# Altium footprint library BSPD_PcbLib.PcbLib: 22 footprints (part 2 of 2)
Each footprint in its own frame and in the unit in brackets; x right, y up, seen from the top. Pads: shape width x height; smd on the part's side, far side on the other; paste and mask are expansions set on the pad; w line width, h text height; cw(c..) or ccw(c..) is an arc to the next point about the centre after c.
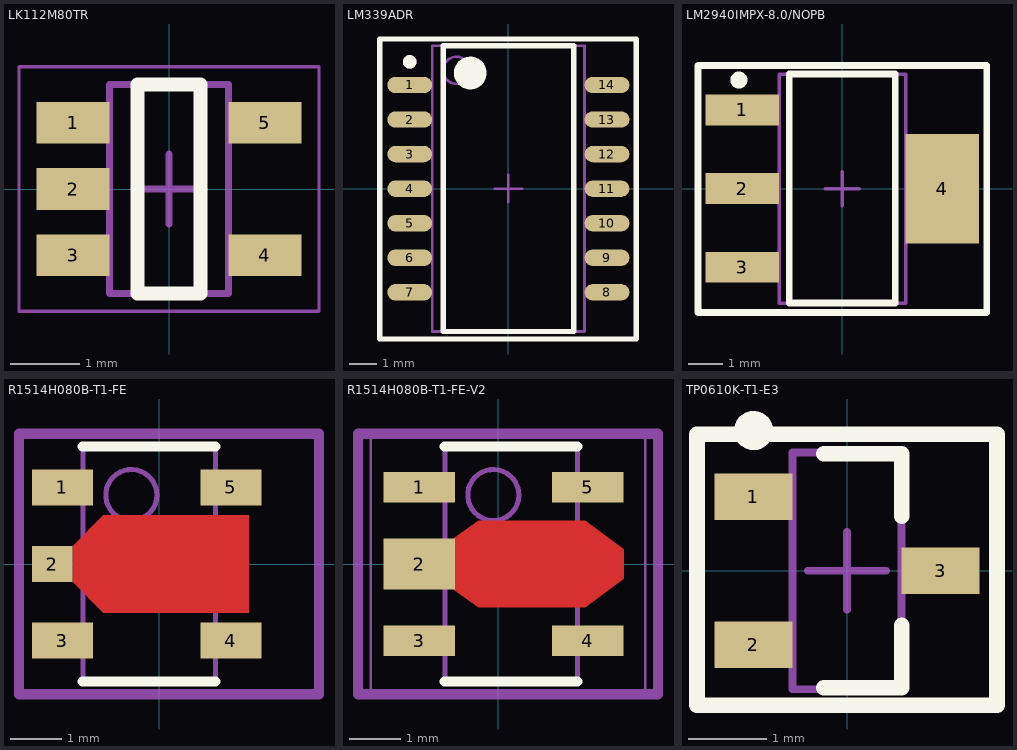
[diagram p1: the footprints below, top view; thin cyan lines are the x and y axes]

## LK112M80TR [mm] "SOT23, 5-Leads, Body 2.90x2.80mm, Pitch 0.95mm, IPC Medium Density"
height 1.45
pads (5):
  rect 1.05x0.6 smd: 1(-1.375,0.95) 2(-1.375,0) 3(-1.375,-0.95) 4(1.375,-0.95) 5(1.375,0.95)
Top Overlay:
  lines w0.2: -0.45,-1.5 -0.45,1.5 0.45,1.5 0.45,-1.5 -0.45,-1.5
Assembly Top:
  lines w0.1: -0.85,-1.5 0.85,-1.5 0.85,1.5 -0.85,1.5 -0.85,-1.5
Courtyard Top:
  lines w0.05: -2.15,-1.75 2.15,-1.75 2.15,1.75 -2.15,1.75 -2.15,-1.75
  lines w0.1: -0.5,0 0.5,0 ; 0,-0.5 0,0.5
Mechanical 29 (Mech29):
  lines w0.05: -2.15,-1.75 -2.15,1.75 2.15,1.75 2.15,-1.75 -2.15,-1.75
  text "'.Designator'" at -2,-0.3 h0.7
3D body "LK112M80TR.step": height 1.45, standoff 0, extent -1.55,-1.5 1.55,1.5

## LM339ADR [mm]
height 2
pads (14):
  oval 1.65x0.6 smd: 1(-3.625,3.81) 2(-3.625,2.54) 3(-3.625,1.27) 4(-3.625,0) 5(-3.625,-1.27) 6(-3.625,-2.54) 7(-3.625,-3.81) 8(3.625,-3.81) 9(3.625,-2.54) 10(3.625,-1.27) 11(3.625,0) 12(3.625,1.27) 13(3.625,2.54) 14(3.625,3.81)
Top Overlay:
  circle w0.6: c-1.4,4.25 r0.3
  circle w0.25: c-3.625,4.66 r0.125
  lines w0.2: -4.725,-5.525 4.7,-5.525 4.7,5.5 -4.725,5.5 -4.725,-5.525 ; -2.4,-5.25 2.4,-5.25 2.4,5.25 -2.4,5.25 -2.4,-5.25
Assembly Top:
  circle w0.1: c-1.9,4.35 r0.5
  lines w0.1: -2.8,-5.25 2.8,-5.25 2.8,5.25 -2.8,5.25 -2.8,-5.25
Courtyard Top:
  lines w0.05: -4.7,-5.5 4.7,-5.5 4.7,5.5 -4.7,5.5 -4.7,-5.5
  lines w0.1: -0.5,0 0.5,0 ; 0,-0.5 0,0.5
Mechanical 29 (Mech29):
  circle w0.25: c-3.625,4.66 r0.125
  lines w0.05: -4.7,-5.5 4.7,-5.5 4.7,5.5 -4.7,5.5 -4.7,-5.5
  text "'.Designator'" at -4.572,-0.254 h0.8
3D body "LM339ADR.step": height 2, standoff 0, extent -3.9,-5.25 3.9,5.25

## LM2940IMPX-8.0/NOPB [mm] "SOT223, 4-Leads, Body 6.50x7.00mm (avg), Pitch 2.30mm, IPC Medium Density"
height 1.8
pads (4):
  rect 2.15x0.9 smd: 1(-2.925,2.3) 2(-2.925,0) 3(-2.925,-2.3)
  rect 2.15x3.2 smd: 4(2.925,0)
Top Overlay:
  circle w0.25: c-3.025,3.175 r0.125
  lines w0.2: -4.225,-3.625 -4.225,3.6 4.225,3.6 4.225,-3.625 -4.225,-3.625 ; -1.55,-3.35 -1.55,3.35 1.55,3.35 1.55,-3.35 -1.55,-3.35
Assembly Top:
  lines w0.1: -1.85,-3.35 -1.85,3.35 1.85,3.35 1.85,-3.35 -1.85,-3.35
Courtyard Top:
  lines w0.05: -4.25,-3.6 -4.25,3.6 4.25,3.6 4.25,-3.6 -4.25,-3.6
  lines w0.1: -0.5,0 0.5,0 ; 0,-0.5 0,0.5
Mechanical 29 (Mech29):
  lines w0.05: -4.25,-3.6 -4.25,3.6 4.25,3.6 4.25,-3.6 -4.25,-3.6
  text "'.Designator'" at -3.875,-0.375 h1
3D body "SOT230P700X180-4N.step": height 1.8, standoff 0, extent -3.5,-3.35 3.5,3.35

## R1514H080B-T1-FE [mm] "SOT89, 3-Leads, Body 4.50x2.50mm, Pitch 1.50mm, Lead Span 4.1mm, IPC Medium Density"
height 1.6
pads (5):
  rect 1.2x0.7 smd: 1(-1.9,1.5) 3(-1.9,-1.5) 4(1.4,-1.5) 5(1.4,1.5)
  rect 0.8x0.7 smd: 2(-2.1,0)
Top Layer:
  region: -1.7,0.35 -1.1,0.95 1.75,0.95 1.75,-0.95 -1.1,-0.95 -1.7,-0.35
Top Overlay:
  lines w0.2: -1.5,-2.3 1.1,-2.3 ; -1.5,2.3 1.1,2.3
Assembly Top:
  circle w0.1: c-0.55,1.35 r0.5
  lines w0.1: -1.5,-2.3 1.1,-2.3 1.1,2.3 -1.5,2.3 -1.5,-2.3
Courtyard Top:
  lines w0.05: -2.75,-2.55 3.125,-2.55 3.125,2.55 -2.75,2.55 -2.75,-2.55
  lines w0.1: -0.7,0 0.3,0 ; -0.2,-0.5 -0.2,0.5
Mechanical 29 (Mech29):
  lines w0.2: -2.75,-2.55 -2.75,2.55 3.125,2.55 3.125,-2.55 -2.75,-2.55
  text "'.Designator'" at -2.5,-0.4 h1
3D body "R1514H080B-T1-FE.step": height 1.6, standoff 0, extent -1.95,-2.297 2.85,2.297

## R1514H080B-T1-FE-V2 [mm] "SOT89, 3-Leads, Body 4.50x2.50mm, Pitch 1.50mm, Lead Span 3.5mm, IPC Medium Density"
height 1.6
pads (5):
  rect 1.4x0.6 smd: 1(-1.55,1.5) 3(-1.55,-1.5) 4(1.75,-1.5) 5(1.75,1.5)
  rect 1.4x1 smd: 2(-1.55,0)
Top Layer:
  region: -0.875,0.5 -0.394,0.85 1.7,0.85 2.45,0.294 2.45,-0.294 1.7,-0.85 -0.394,-0.85 -0.875,-0.5
Top Overlay:
  lines w0.2: -1.05,-2.3 1.55,-2.3 ; -1.05,2.3 1.55,2.3
Assembly Top:
  circle w0.1: c-0.1,1.35 r0.5
  lines w0.1: -1.05,-2.3 1.55,-2.3 1.55,2.3 -1.05,2.3 -1.05,-2.3
Courtyard Top:
  lines w0.05: -2.5,-2.55 2.875,-2.55 2.875,2.55 -2.5,2.55 -2.5,-2.55
  lines w0.1: -0.25,0 0.75,0 ; 0.25,-0.5 0.25,0.5
Mechanical 29 (Mech29):
  lines w0.2: -2.75,-2.55 -2.75,2.55 3.125,2.55 3.125,-2.55 -2.75,-2.55
  text "'.Designator'" at -2.5,-0.4 h1
3D body "R1514H080B-T1-FE-V2.step": height 1.6, standoff 0, extent -2.2,-2.297 2.65,2.297

## TP0610K-T1-E3 [mm] "SOT23, 3-Leads, Body 2.92x2.37mm, Pitch 0.95mm, IPC Medium Density"
height 1.12
pads (3):
  rect 1x0.6 smd: 1(-1.2,0.95) 2(-1.2,-0.95) 3(1.2,0)
Top Overlay:
  circle w0.25: c-1.2,1.8 r0.125
  lines w0.2: -0.3,-1.5 0.7,-1.5 0.7,-0.7 ; -0.3,1.5 0.7,1.5 0.7,0.7 ; -1.925,-1.725 1.925,-1.725 1.925,1.75 -1.925,1.75 -1.925,-1.725
Assembly Top:
  lines w0.1: -0.7,-1.52 -0.7,1.52 0.7,1.52 0.7,-1.52 -0.7,-1.52
Courtyard Top:
  lines w0.05: -1.925,-1.75 -1.925,1.75 1.925,1.75 1.925,-1.75 -1.925,-1.75
  lines w0.1: -0.5,0 0.5,0 ; 0,-0.5 0,0.5
Mechanical 29 (Mech29):
  circle w0.25: c-1.2,1.8 r0.125
  lines w0.05: -1.925,-1.75 1.925,-1.75 1.925,1.75 -1.925,1.75 -1.925,-1.75
  text "'.Designator'" at -1.7,-0.275 h0.7
3D body "TP0610K-T1-E3.step": height 1.12, standoff 0, extent -1.32,-1.52 1.32,1.52